# EAGLE library part TR-54D (library iqrf)
Wirelles transceiver module
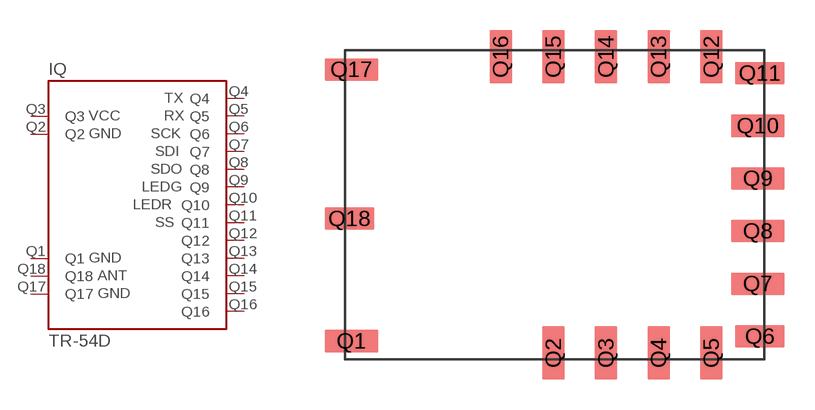
[diagram p0: symbol with the pads of TR-54D; footprint TR-54D]

Designator prefix IQ

## TR-54D  [TR-54D]
Q1  Q1  pwr
Q2  Q2  pwr
Q3  Q3  pwr
Q4  Q4
Q5  Q5
Q6  Q6
Q7  Q7
Q8  Q8
Q9  Q9
Q10  Q10
Q11  Q11
Q12  Q12
Q13  Q13
Q14  Q14
Q15  Q15
Q16  Q16
Q17  Q17  pwr
Q18  Q18  hiz

## Footprint TR-54D (pad centres in mm)
TR-54D module without antenna
smd 2.6 x 1.1: Q1 -9.74,-5.31; Q7 9.86,-2.54; Q8 9.86,0; Q9 9.86,2.54; Q10 9.86,5.08; Q17 -9.74,7.8
smd 1.1 x 2.6: Q2 0,-5.88; Q3 2.54,-5.88; Q4 5.08,-5.88; Q5 7.62,-5.88; Q12 7.62,8.42; Q13 5.08,8.42; Q14 2.54,8.42; Q15 0,8.42; Q16 -2.54,8.42
smd 2.4 x 1.1: Q6 9.96,-5.08; Q11 9.96,7.62; Q18 -9.84,0.6